# EAGLE library part SWD_PROG_6PIN_TAG-CONNECT_TC2030-IDC-NL (library Connector_SWD)
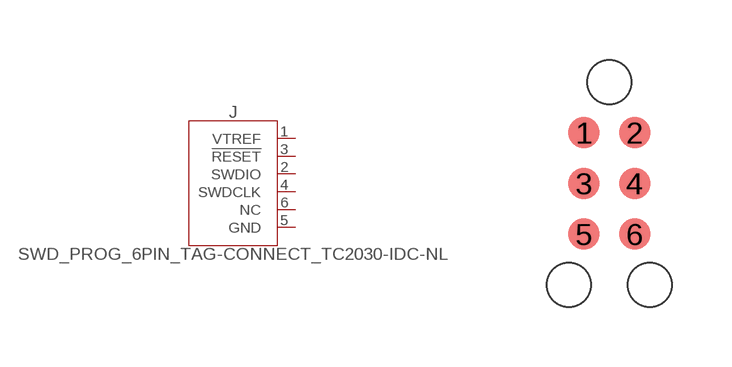
[diagram p0: symbol with the pads of TAG-CONNECT_TC2030-IDL-NL; footprint TAG-CONNECT_TC2030-IDL-NL]

Designator prefix J

## SWD_PROG_6PIN_TAG-CONNECT_TC2030-IDC-NL  [TAG-CONNECT_TC2030-IDL-NL]
1  VTREF  pas
2  SWDIO
3  !RESET  in
4  SWDCLK  in
5  GND  pwr
6  NC  nc

## Footprint TAG-CONNECT_TC2030-IDL-NL (pad centres in mm)
smd 0.787 x 0.787: 1 -0.635,1.27; 2 0.635,1.27; 3 -0.635,0; 4 0.635,0; 5 -0.635,-1.27; 6 0.635,-1.27
hole 1.1 at 0,2.54
hole 1.1 at -1.016,-2.54
hole 1.1 at 1.016,-2.54